# Altium schematic symbol library LM4041QCEM3X.Schlib: 1 symbol
Pins are listed as number, name and electrical type; pins without a type are passive.

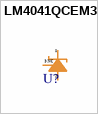
[diagram p0: symbol LM4041QCEM3X]

## LM4041QCEM3X
designator U?
Micropower Shunt Voltage Reference 1.225V, Vout Error: 6mV
pins: 1, 2, 3
text: 3 NC